# Altium footprint library SignalCommunications.PCBLIB: 466 footprints (part 3 of 30)
Each footprint in its own frame and in the unit in brackets; x right, y up, seen from the top. Pads: shape width x height; smd on the part's side, far side on the other; paste and mask are expansions set on the pad; w line width, h text height; cw(c..) or ccw(c..) is an arc to the next point about the centre after c.
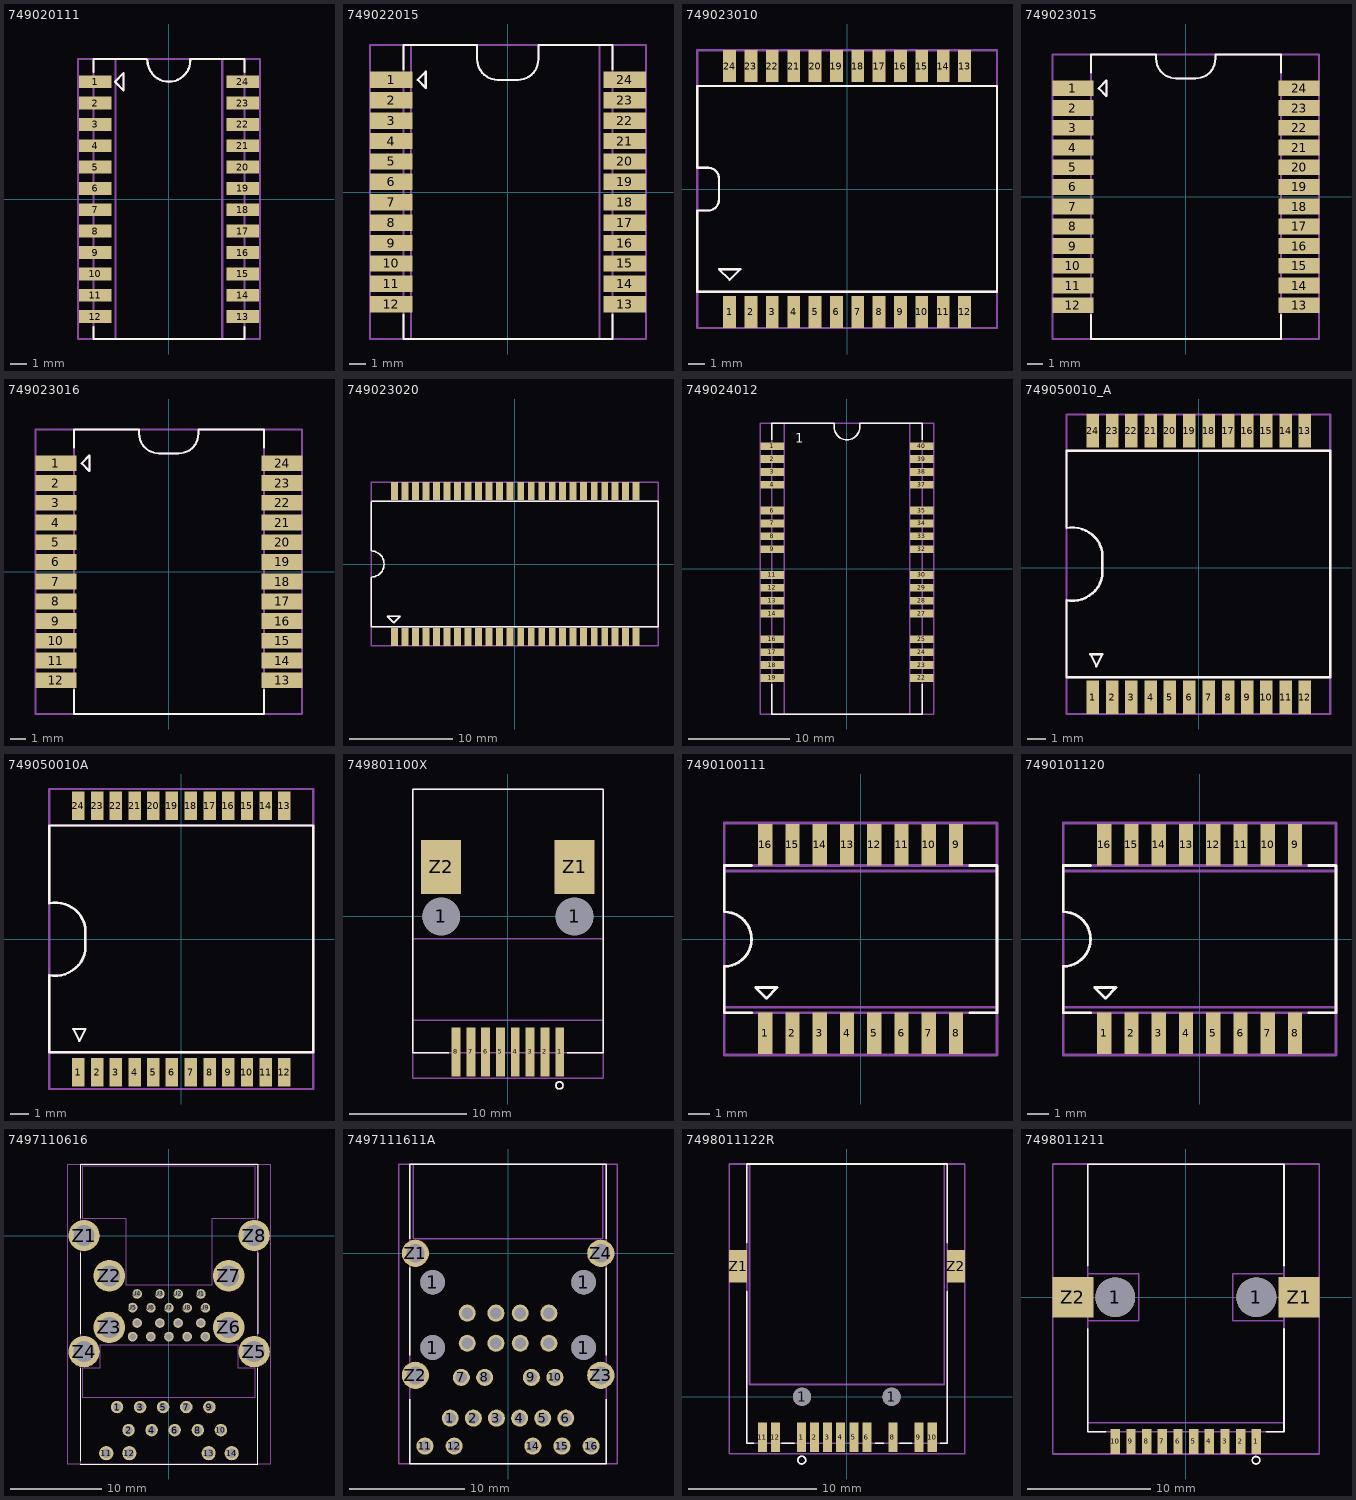
[diagram p2: the footprints below, top view; thin cyan lines are the x and y axes]

## 749020111 [mil]
pads (24):
  rect 76x30 smd: 1(-172.44,275) 2(-172.44,225) 3(-172.44,175) 4(-172.44,125) 5(-172.44,75) 6(-172.44,25) 7(-172.44,-25) 8(-172.44,-75) 9(-172.44,-125) 10(-172.44,-175) 11(-172.44,-225) 12(-172.44,-275) 13(173,-275) 14(173,-225) 15(173,-175) 16(173,-125) 17(173,-75) 18(173,-25) 19(173,25) 20(173,75) 21(173,125) 22(173,175) 23(173,225) 24(173,275)
Top Overlay:
  lines w5: -176.97,-300 -176.97,-327.56 177,-327.56 177,-300 ; -176.97,298 -176.97,328 -52.56,328 -50,325 ccw(c0,325) 0,275 ccw(c0,325) 50,325 50,328 177,328 177,298 ; -126.28,275 -106.59,295 -106.59,255 -126.28,275
Mechanical 10:
  lines w5: -125,-327.56 125,-327.56 125,328 -125,328 -125,-327.56
Mechanical 16:
  lines w5: -176.97,-327.56 -176.97,328 -52.56,328 -50,325 ccw(c0,325) 0,275 ccw(c0,325) 50,325 50,328 177,328 177,-327.56 -176.97,-327.56 ; -126.28,275 -106.59,255 -106.59,295 -126.28,275
Mechanical 27:
  lines w5: -212.5,-327.56 213,-327.56 213,328 -212.5,328 -212.5,-327.56

## 749022015 [mil]
pads (24):
  rect 104x40 smd: 1(-286.02,275) 2(-286.02,225) 3(-286.02,175) 4(-286.02,125) 5(-286.02,75) 6(-286.02,25) 7(-286.02,-24.8) 8(-286.02,-74.8) 9(-286.02,-124.8) 10(-286.02,-174.8) 11(-286.02,-224.8) 12(-286.02,-274.8) 13(287,-274.8) 14(287,-224.8) 15(287,-174.8) 16(287,-124.8) 17(287,-74.8) 18(287,-24.8) 19(287,25) 20(287,75) 21(287,125) 22(287,175) 23(287,225) 24(287,275)
Top Overlay:
  lines w5: -255.51,-300 -255.51,-359.84 256,-359.84 256,-300 ; -255.51,300 -255.51,360 -75,360 -75,325 ccw(c-25,325) -25,275 25,275 ccw(c25,325) 75,325 75,360 256,360 256,300 ; -220.67,275 -200.98,295 -200.98,255 -220.67,275
Mechanical 10:
  lines w5: -237.5,-359.84 225,-359.84 225,360 -237.5,360 -237.5,-359.84
Mechanical 16:
  lines w5: -255.51,-359.84 -255.51,360 -75,360 -75,325 ccw(c-25,325) -25,275 25,275 ccw(c25,325) 75,325 75,360 256,360 256,-359.84 -255.51,-359.84 ; -220.67,275 -200.98,295 -200.98,255 -220.67,275
Mechanical 27:
  lines w5: -337.5,-359.84 338,-359.84 338,360 -337.5,360 -337.5,-359.84

## 749023010 [mil]
pads (24):
  rrect4% 30x75 smd: 1(-275,-287.5)
  rect 30x75 smd: 2(-225,-287.5) 3(-175,-287.5) 4(-125,-287.5) 5(-75,-287.5) 6(-25,-287.5) 7(25,-287.5) 8(75,-287.5) 9(125,-287.5) 10(175,-287.5) 11(225,-287.5) 12(275,-287.5) 13(275,288) 14(225,288) 15(175,288) 16(125,288) 17(75,288) 18(25,288) 19(-25,288) 20(-75,288) 21(-125,288) 22(-175,288) 23(-225,288) 24(-275,288)
Top Overlay:
  lines w5: -350.59,-240.16 351,-240.16 351,241 -350.59,241 -350.59,50 -325,50 cw(c-325,25) -300,25 -300,-25 cw(c-325,-25) -325,-50 -350.59,-50 -350.59,-239.57 cw(c-350.89,-239.86) -350.59,-240.16 ; -300,-187.5 -275,-212.5 -250,-187.5 -300,-187.5
Mechanical 10:
  lines w5: -350.59,-240.16 351,-240.16 351,241 -350.59,241 -350.59,-240.16
Mechanical 16:
  lines w5: -350.59,-240.16 -350.59,-50 -325,-50 ccw(c-325,-25) -300,-25 -300,25 ccw(c-325,25) -325,50 -350.59,50 -350.59,241 351,241 351,-240.16 -350.59,-240.16 ; -300,-187.5 -250,-187.5 -275,-212.5 -300,-187.5
Mechanical 27:
  lines w5: -350.59,-325 -350.59,325 351,325 351,-325 -350.59,-325

## 749023015 [mil]
pads (24):
  rect 104x40 smd: 1(-286.02,275) 2(-286.02,225) 3(-286.02,175) 4(-286.02,125) 5(-286.02,75) 6(-286.02,25) 7(-286.02,-24.8) 8(-286.02,-74.8) 9(-286.02,-124.8) 10(-286.02,-174.8) 11(-286.02,-224.8) 12(-286.02,-274.8) 13(287,-274.8) 14(287,-224.8) 15(287,-174.8) 16(287,-124.8) 17(287,-74.8) 18(287,-24.8) 19(287,25) 20(287,75) 21(287,125) 22(287,175) 23(287,225) 24(287,275)
Top Overlay:
  lines w5: -240.16,-300 -240.16,-360.24 241,-360.24 241,-300 ; -240.16,315 -240.16,361 -75,361 -75,350 ccw(c-25,350) -25,300 25,300 ccw(c25,350) 75,350 75,361 241,361 241,315 ; -220.67,275 -200.98,295 -200.98,255 -220.67,275
Mechanical 10:
  lines w5: -240.16,-360.24 241,-360.24 241,361 -240.16,361 -240.16,-360.24
Mechanical 16:
  lines w5: -240.16,-360.24 -240.16,361 -75,361 -75,350 ccw(c-25,350) -25,300 25,300 ccw(c25,350) 75,350 75,361 241,361 241,-360.24 -240.16,-360.24 ; -220.67,275 -200.98,295 -200.98,255 -220.67,275
Mechanical 27:
  lines w5: -337.5,-360.24 338,-360.24 338,361 -337.5,361 -337.5,-360.24

## 749023016 [mil]
pads (24):
  rect 104x40 smd: 1(-286.02,275) 2(-286.02,225) 3(-286.02,175) 4(-286.02,125) 5(-286.02,75) 6(-286.02,25) 7(-286.02,-24.8) 8(-286.02,-74.8) 9(-286.02,-124.8) 10(-286.02,-174.8) 11(-286.02,-224.8) 12(-286.02,-274.8) 13(287,-274.8) 14(287,-224.8) 15(287,-174.8) 16(287,-124.8) 17(287,-74.8) 18(287,-24.8) 19(287,25) 20(287,75) 21(287,125) 22(287,175) 23(287,225) 24(287,275)
Top Overlay:
  lines w5: -240.16,-300 -240.16,-360.24 241,-360.24 241,-300 ; -240.16,315 -240.16,361 -75,361 -75,350 ccw(c-25,350) -25,300 25,300 ccw(c25,350) 75,350 75,361 241,361 241,315 ; -220.67,275 -200.98,295 -200.98,255 -220.67,275
Mechanical 10:
  lines w5: -240.16,-360.24 241,-360.24 241,361 -240.16,361 -240.16,-360.24
Mechanical 16:
  lines w5: -240.16,-360.24 -240.16,361 -75,361 -75,350 ccw(c-25,350) -25,300 25,300 ccw(c25,350) 75,350 75,361 241,361 241,-360.24 -240.16,-360.24 ; -220.67,275 -200.98,295 -200.98,255 -220.67,275
Mechanical 27:
  lines w5: -337.5,-360.24 338,-360.24 338,361 -337.5,361 -337.5,-360.24

## 749023020 [mil]
pads (48):
  rect 26x68 smd: 1(-459.84,-278.74) 2(-419.69,-278.74) 3(-379.53,-278.74) 4(-339.37,-278.74) 5(-299.21,-278.74) 6(-259.06,-278.74) 7(-218.9,-278.74) 8(-178.74,-278.74) 9(-138.58,-278.74) 10(-98.43,-278.74) 11(-58.27,-278.74) 12(-18.11,-278.74) 13(23,-278.74) 14(63,-278.74) 15(103,-278.74) 16(143,-278.74) 17(183,-278.74) 18(223,-278.74) 19(263,-278.74) 20(304,-278.74) 21(344,-278.74) 22(384,-278.74) 23(424,-278.74) 24(464,-278.74) 25(464,279) 26(424,279) 27(384,279) 28(344,279) 29(304,279) 30(263,279) 31(223,279) 32(183,279) 33(143,279) 34(103,279) 35(63,279) 36(23,279) 37(-18.11,279) 38(-58.27,279) 39(-98.43,279) 40(-138.58,279) 41(-178.74,279) 42(-218.9,279) 43(-259.06,279) 44(-299.21,279) 45(-339.37,279) 46(-379.53,279) 47(-419.69,279) 48(-459.84,279)
Top Overlay:
  lines w5: -550,238 -550,50 cw(c-550,0) -500,0 cw(c-550,0) -550,-50 -550,-239.96 548,-239.96 548,240 -547.44,240 ; -487.5,-200 -462.5,-225 -437.5,-200 -487.5,-200
Mechanical 10:
  lines w5: -550,-239.96 548,-239.96 548,240 -550,240 -550,-239.96
Mechanical 16:
  lines w5: -550,238 -550,50 cw(c-550,0) -500,0 cw(c-550,0) -550,-50 -550,-239.96 548,-239.96 548,240 -550,240 ; -487.5,-200 -437.5,-200 -462.5,-225 -487.5,-200
Mechanical 27:
  lines w5: -550,-312.5 548,-312.5 548,313 -550,313 -550,-312.5

## 749024012 [mil]
pads (32):
  rect 91x30 smd: 1(-289.96,475) 2(-289.96,425) 3(-289.96,375) 4(-289.96,325) 6(-289.96,225) 7(-289.96,175) 8(-289.96,125) 9(-289.96,75) 11(-289.96,-25) 12(-289.96,-75) 13(-289.96,-125) 14(-289.96,-175) 16(-289.96,-275) 17(-289.96,-325) 18(-289.96,-375) 19(-289.96,-425) 22(290,-425) 23(290,-375) 24(290,-325) 25(290,-275) 27(290,-175) 28(290,-125) 29(290,-75) 30(290,-25) 32(290,75) 33(290,125) 34(290,175) 35(290,225) 37(290,325) 38(290,375) 39(290,425) 40(290,475)
Top Overlay:
  lines w5: -292.52,-450 -292.52,-564.96 293,-564.96 293,-450 ; -292.52,500 -292.52,565 -50,565 -50,550 ccw(c0,550) 0,500 ccw(c0,550) 50,550 50,565 293,565 293,500
  text "1" at -200,475 h62
Mechanical 10:
  lines w5: -242.52,-564.96 243,-564.96 243,565 -242.52,565 -242.52,-564.96
Mechanical 16:
  lines w5: -292.52,-564.96 -292.52,565 -50,565 -50,550 ccw(c0,550) 0,500 ccw(c0,550) 50,550 50,565 293,565 293,-564.96 -292.52,-564.96
  text "1" at -200,475 h62
Mechanical 27:
  lines w5: -337.5,-564.96 -337.5,565 338,565 338,-564.96 -337.5,-564.96

## 749050010_A [mil]
pads (24):
  rect 26x70 smd: 1(-220.87,-270.08) 2(-180.71,-270.08) 3(-140.55,-270.08) 4(-100.39,-270.08) 5(-60.24,-270.08) 6(-20.08,-270.08) 7(21,-270.08) 8(61,-270.08) 9(101,-270.08) 10(141,-270.08) 11(181,-270.08) 12(221,-270.08) 13(221,286) 14(181,286) 15(141,286) 16(101,286) 17(61,286) 18(21,286) 19(-20.08,286) 20(-60.24,286) 21(-100.39,286) 22(-140.55,286) 23(-180.71,286) 24(-220.87,286)
Top Overlay:
  lines w5: -276.18,-228.74 274,-228.74 274,244 -276.18,244 -276.18,83 cw(c-263.68,20.5) -201.18,33 -201.18,-17.52 cw(c-263.68,-5.02) -276.18,-67.52 -276.18,-228.74 ; -226.18,-180.02 -213.68,-205.02 -201.18,-180.02 -226.18,-180.02
Mechanical 10:
  lines w5: -276.18,-228.74 274,-228.74 274,244 -276.18,244 -276.18,-228.74
Mechanical 16:
  lines w5: -276.18,-228.74 274,-228.74 274,244 -276.18,244 -276.18,83 cw(c-263.68,20.5) -201.18,33 -201.18,-17.52 cw(c-263.68,-5.02) -276.18,-67.52 -276.18,-228.74 ; -226.18,-180.02 -213.68,-205.02 -201.18,-180.02 -226.18,-180.02
Mechanical 27:
  lines w5: -276.18,-305.02 274,-305.02 274,320 -276.18,320 -276.18,-305.02

## 749050010A [mil]
pads (24):
  rect 26x60 smd: 1(-214.37,-277.56) 2(-175.39,-277.56) 3(-136.42,-277.56) 4(-97.44,-277.56) 5(-58.46,-277.56) 6(-19.49,-277.56) 7(20,-277.56) 8(59,-277.56) 9(98,-277.56) 10(137,-277.56) 11(176,-277.56) 12(215,-277.56) 13(215,278) 14(176,278) 15(137,278) 16(98,278) 17(59,278) 18(20,278) 19(-19.49,278) 20(-58.46,278) 21(-97.44,278) 22(-136.42,278) 23(-175.39,278) 24(-214.37,278)
Top Overlay:
  lines w5: -275,-236.22 275,-236.22 275,237 -275,237 -275,75 cw(c-262.5,12.5) -200,25 -200,-25 cw(c-262.5,-12.5) -275,-75 -275,-236.22 ; -225,-187.5 -212.5,-212.5 -200,-187.5 -225,-187.5
Mechanical 10:
  lines w5: -275,-236.22 275,-236.22 275,237 -275,237 -275,-236.22
Mechanical 16:
  lines w5: -275,-236.22 275,-236.22 275,237 -275,237 -275,75 cw(c-262.5,12.5) -200,25 -200,-25 cw(c-262.5,-12.5) -275,-75 -275,-236.22 ; -225,-187.5 -212.5,-212.5 -200,-187.5 -225,-187.5
Mechanical 27:
  lines w5: -275,-312.5 275,-312.5 275,313 -275,313 -275,-312.5

## 749801100X [mil]
pads (12):
  round 127 hole 127: 1(-225,0) 1(225,0)
  rect 30x165 smd: 1(175,-457.09) 2(125,-457.09) 3(75,-457.09) 4(25,-457.09) 5(-25,-457.09) 6(-75,-457.09) 7(-125,-457.09) 8(-175,-457.09)
  rect 135x181 smd: Z1(225,167) Z2(-225,167)
Top Overlay:
  circle w5: c174,-569.98 r12
  lines w5: -200,-459.84 -320.08,-459.84 -320.08,430 321,430 321,-459.84 200,-459.84
Mechanical 10:
  lines w5: -320.08,-350 321,-350 321,-75 200,-75 150,-75 -320.08,-75 -320.08,-350
Mechanical 16:
  circle w5: c174,-569.98 r12
  lines w5: -320.08,-459.84 321,-459.84 321,430 -320.08,430 -320.08,-459.84
Mechanical 27:
  lines w5: -320.08,-545.87 -320.08,430 321,430 321,-545.87 -320.08,-545.87

## 7490100111 [mil]
pads (16):
  rect 26x76 smd: 1(-175,-172.64) 2(-125,-172.64) 3(-75,-172.64) 4(-25,-172.64) 5(25,-172.64) 6(75,-172.64) 7(125,-172.64) 8(175,-172.64) 9(175,173) 10(125,173) 11(75,173) 12(25,173) 13(-25,173) 14(-75,173) 15(-125,173) 16(-175,173)
Top Overlay:
  lines w5: -200,-134.84 -250,-134.84 -250,-50 ccw(c-250,0) -200,0 ccw(c-250,0) -250,50 -250,135 -200,135 ; 200,-134.84 250,-134.84 250,135 200,135 ; -192.52,-88.78 -172.83,-108.46 -153.15,-88.78 -192.52,-88.78
Mechanical 10:
  lines w5: 250,-137.5 250,-125 ; 250,-125 250,125 -250,125 -250,-125 250,-125
Mechanical 16:
  lines w5: -250,-134.84 -250,-50 ccw(c-250,0) -200,0 ccw(c-250,0) -250,50 -250,135 250,135 250,-134.84 -250,-134.84 ; -192.52,-88.78 -172.83,-108.46 -153.15,-88.78 -192.52,-88.78
Mechanical 27:
  lines w5: -250,-212.5 250,-212.5 250,213 -250,213 -250,-212.5

## 7490101120 [mil]
pads (16):
  rect 26x76 smd: 1(-175,-172.64) 2(-125,-172.64) 3(-75,-172.64) 4(-25,-172.64) 5(25,-172.64) 6(75,-172.64) 7(125,-172.64) 8(175,-172.64) 9(175,173) 10(125,173) 11(75,173) 12(25,173) 13(-25,173) 14(-75,173) 15(-125,173) 16(-175,173)
Top Overlay:
  lines w5: -200,-134.84 -250,-134.84 -250,-50 ccw(c-250,0) -200,0 ccw(c-250,0) -250,50 -250,135 -200,135 ; 200,-134.84 250,-134.84 250,135 200,135 ; -192.52,-88.78 -172.83,-108.46 -153.15,-88.78 -192.52,-88.78
Mechanical 10:
  lines w5: -250,-125 250,-125 250,125 -250,125 -250,-125
Mechanical 16:
  lines w5: -250,-134.84 -250,-50 ccw(c-250,0) -200,0 ccw(c-250,0) -250,50 -250,135 250,135 250,-134.84 -250,-134.84 ; -192.52,-88.78 -172.83,-108.46 -153.15,-88.78 -192.52,-88.78
Mechanical 27:
  lines w5: -250,-212.5 250,-212.5 250,213 -250,213 -250,-212.5

## 7497110616 [mil]
pads (40):
  round 54 hole 36: 1(-225,-743.31) 2(-175,-843.31) 3(-125,-743.31) 4(-75,-843.31) 5(-25,-743.31) 6(25,-843.31) 7(75,-743.31) 8(125,-843.31) 9(175,-743.31) 10(225,-843.31)
  round 61.5 hole 41: 11(-271.65,-943.31) 12(-171.65,-943.31) 13(172,-943.31) 14(272,-943.31)
  round 42 hole 28: U1(138,-253.15) U2(40,-253.15) U3(-39.37,-253.15) U4(-137.8,-253.15) U5(-157.48,-312.2) U6(-78.74,-313.39) U7(0,-313.39) U8(79,-313.39) U9(158,-313.39) U10(138,-379.13) U11(40,-379.13) U12(-39.37,-379.13) U13(-137.8,-379.13) U14(-157.48,-438.19) U15(-78.74,-438.19) U16(0,-438.19) U17(79,-438.19) U18(158,-438.19)
  round 136.5 hole 91: Z1(-368.11,0) Z2(-258.66,-174.41) Z3(-258.66,-398.03) Z4(-368.11,-503.15) Z5(369,-503.15) Z6(259,-398.03) Z7(259,-174.41) Z8(369,0)
Top Overlay:
  lines w5: -383.86,-990.16 384,-990.16 384,-575 ; -383.86,-975 -383.86,-575 ; -383.86,-425 -383.86,-75 ; -383.86,75 -383.86,310 384,310 384,75 ; 384,-425 384,-75
Mechanical 10:
  lines w5: -375,-700 375,-700 375,-575 300,-575 300,-475 -300,-475 -300,-575 -375,-575 -375,-700 ; -375,75 -375,300 375,300 375,75 188,75 188,-212.5 -187.5,-212.5 -187.5,75 -375,75
Mechanical 16:
  lines w5: -383.86,-990.16 384,-990.16 384,310 -383.86,310 -383.86,-990.16
Mechanical 27:
  lines w5: -437.5,-990.16 438,-990.16 438,310 -437.5,310 -437.5,-990.16

## 7497111611A [mil]
pads (31):
  round 84 hole 84: 1(-258.46,-322.83) 1(-258.46,-98.82) 1(259,-322.83) 1(259,-98.82)
  round 58.5 hole 39: 1(-197.83,-564.96) 2(-118.7,-564.96) 3(-39.57,-564.96) 4(40,-564.96) 5(119,-564.96) 6(198,-564.96) 7(-160.04,-425.2) 8(-79.92,-425.2) 9(80,-425.2) 10(161,-425.2) 11(-284.45,-660.63) 12(-184.45,-660.63) 14(85,-660.63) 15(185,-660.63) 16(285,-660.63) USB1-1(140,-205.12) USB1-2(42,-205.12) USB1-3(-41.34,-205.12) USB1-4(-139.76,-205.12) USB2-1(140,-308.27) USB2-2(42,-308.27) USB2-3(-41.34,-308.27) USB2-4(-139.76,-308.27)
  round 93 hole 62: Z1(-317.52,0) Z2(-317.52,-418.11) Z3(318,-418.11) Z4(318,0)
Top Overlay:
  lines w5: -336.42,-500 -336.42,-722.05 337,-722.05 337,-500 ; -336.42,-350 -336.42,-50 ; -336.42,50 -336.42,306 337,306 337,50 ; 337,-350 337,-50
Mechanical 10:
  lines w5: -325,50 325,50 325,306 -325,306 -325,50
Mechanical 16:
  lines w5: -336.42,-722.05 337,-722.05 337,306 -336.42,306 -336.42,-722.05
Mechanical 27:
  lines w5: -375,-722.05 375,-722.05 375,306 -375,306 -375,-722.05

## 7498011122R [mil]
pads (15):
  rect 28x91 smd: 1(-139.57,-125.2) 2(-99.41,-125.2) 3(-59.25,-125.2) 4(-19.09,-125.2) 5(22,-125.2) 6(62,-125.2) 8(142,-125.2) 9(222,-125.2) 10(263,-125.2) 11(-260.04,-125.2) 12(-219.88,-125.2)
  round 56 hole 56: 1(-137.8,0) 1(138,0)
  rect 56x100 smd: Z1(-335.04,402) Z2(336,402)
Top Overlay:
  circle w5: c-138.78,-194.98 r12
  lines w5: -308.07,325 -308.07,-142.91 -287.5,-142.91 ; -308.07,475 -308.07,717 309,717 309,475 ; -200,-142.91 -162.5,-142.91 ; 88,-142.91 113,-142.91 ; 163,-142.91 200,-142.91 ; 288,-142.91 309,-142.91 309,325
Mechanical 10:
  lines w5: -300,38 300,38 300,717 -300,717 -300,38
Mechanical 16:
  circle w5: c-138.78,-194.98 r12
  lines w5: -308.07,-142.91 309,-142.91 309,717 -308.07,717 -308.07,-142.91
Mechanical 27:
  lines w5: -362.5,-175 363,-175 363,717 -362.5,717 -362.5,-175

## 7498011211 [mil]
pads (14):
  round 127 hole 127: 1(-225,0) 1(225,0)
  rect 30x80 smd: 1(225,-459.84) 2(175,-459.84) 3(125,-459.84) 4(75,-459.84) 5(25,-459.84) 6(-25,-459.84) 7(-75,-459.84) 8(-125,-459.84) 9(-175,-459.84) 10(-225,-459.84)
  rect 130x130 smd: Z1(361,0) Z2(-360.04,0)
Top Overlay:
  circle w5: c224,-519.98 r12
  lines w5: -312.6,-100 -312.6,-428.74 -255.91,-428.74 ; -312.6,100 -312.6,424 313,424 313,100 ; 256,-428.74 313,-428.74 313,-100
Mechanical 10:
  lines w5: -312.6,-400 313,-400 313,-75 150,-75 150,75 313,75 313,424 -312.6,424 -312.6,75 -150,75 -150,-75 -312.6,-75 -312.6,-400
Mechanical 16:
  circle w5: c224,-519.98 r12
  lines w5: -312.6,-428.74 313,-428.74 313,424 -312.6,424 -312.6,-428.74
Mechanical 27:
  lines w5: -425,-500 425,-500 425,425 -425,425 -425,-500